# Altium schematic symbol library connectors.SchLib: 228 symbols (part 2 of 2)
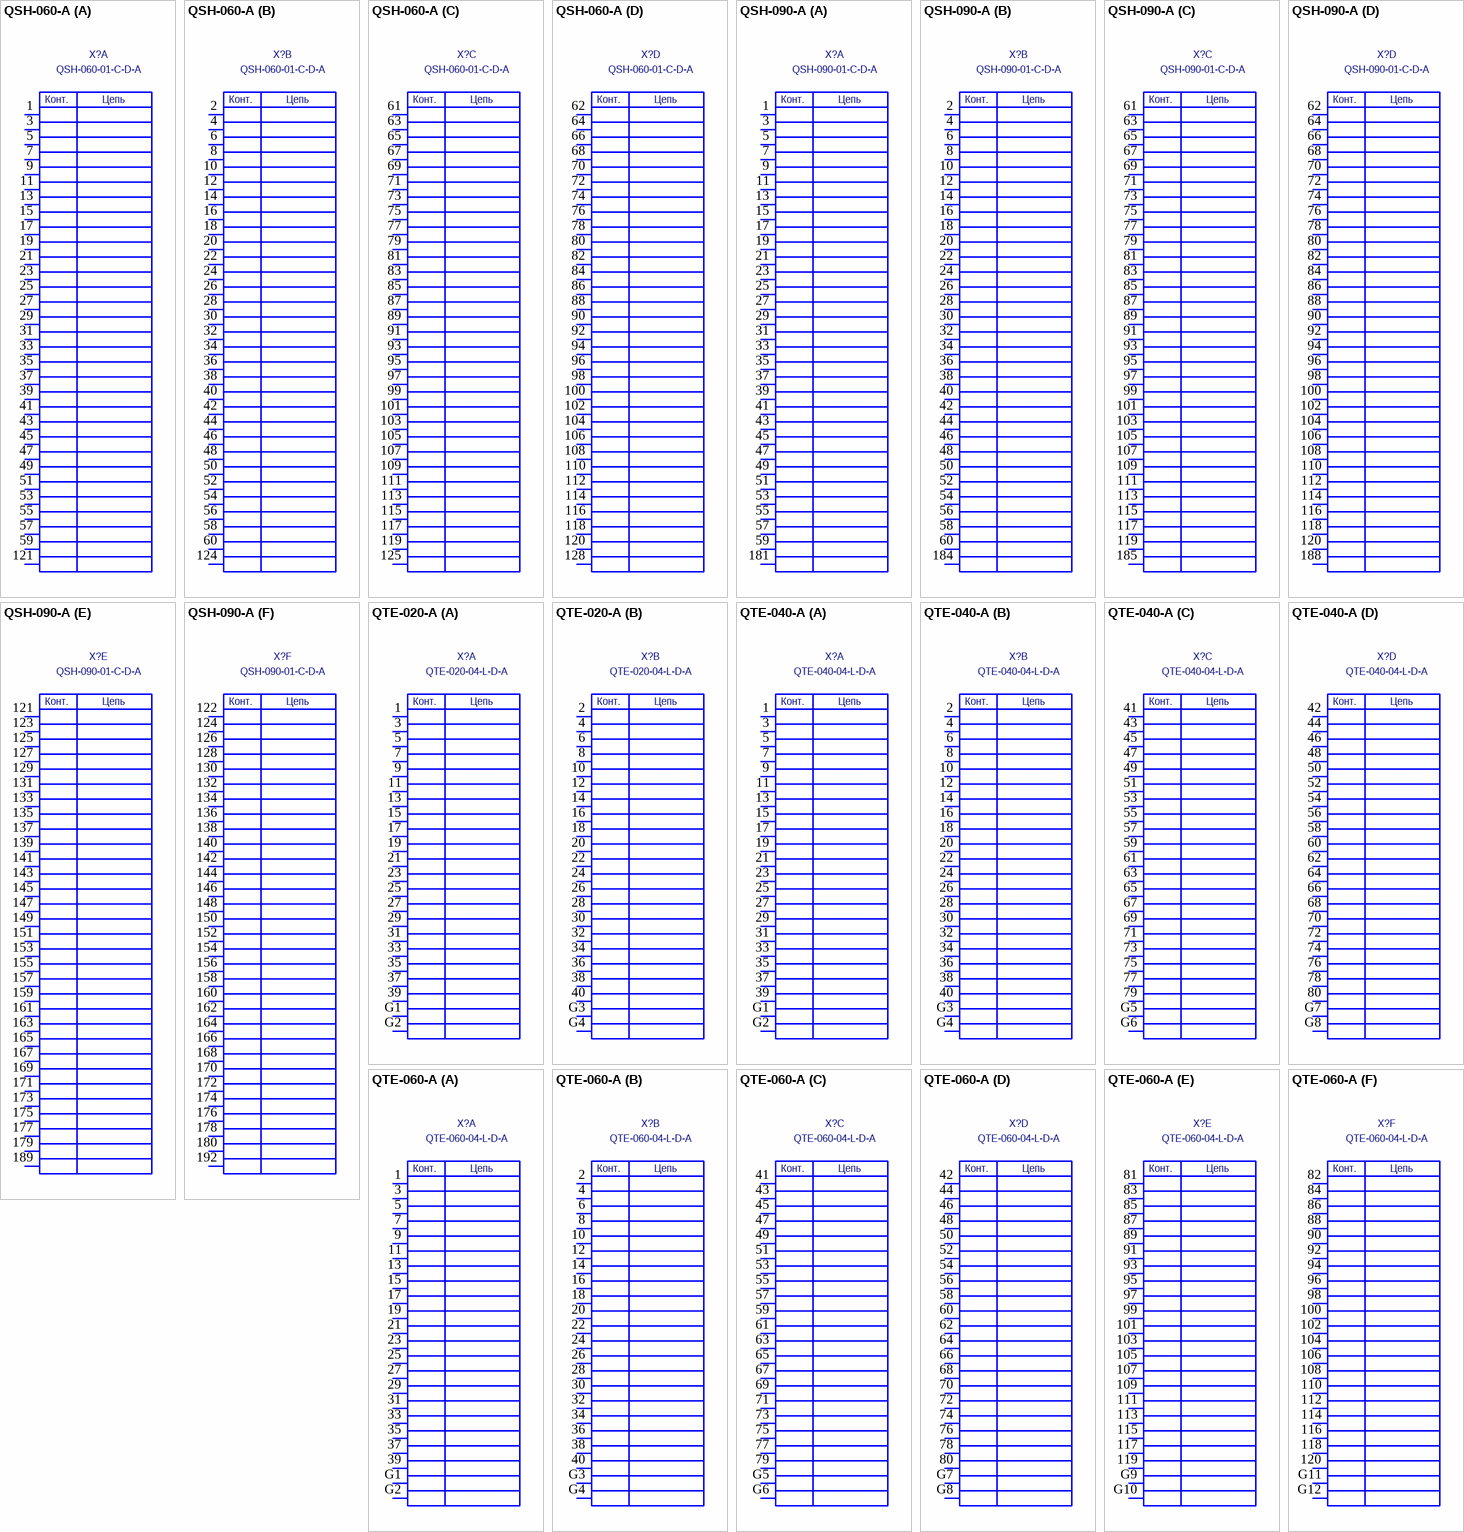
[diagram p16: symbols QSH-060-A to QTE-060-A]

## QTE-020-A
designator X?  value QTE-020-04-L-D-A  (hidden comment: QTE-020-A)
footprint QTE-020-A
pins on every part: 45 hidden, 46 hidden
part A pins: 1 C, 3 C, 5 C, 7 C, 9 C, 11 C, 13 C, 15 C, 17 C, 19 C, 21 C, 23 C, 25 C, 27 C, 29 C, 31 C, 33 C, 35 C, 37 C, 39 C, G1 GND, G2 GND
part B pins: 2 C, 4 C, 6 C, 8 C, 10 C, 12 C, 14 C, 16 C, 18 C, 20 C, 22 C, 24 C, 26 C, 28 C, 30 C, 32 C, 34 C, 36 C, 38 C, 40 C, G3 GND, G4 GND
part A text: Конт.; Цепь
part B text: Конт.; Цепь

## QTE-040-A
designator X?  value QTE-040-04-L-D-A  (hidden comment: QTE-040-A)
footprint QTE-040-A
pins on every part: 89 hidden, 90 hidden
part A pins: 1 C, 3 C, 5 C, 7 C, 9 C, 11 C, 13 C, 15 C, 17 C, 19 C, 21 C, 23 C, 25 C, 27 C, 29 C, 31 C, 33 C, 35 C, 37 C, 39 C, G1 GND, G2 GND
part B pins: 2 C, 4 C, 6 C, 8 C, 10 C, 12 C, 14 C, 16 C, 18 C, 20 C, 22 C, 24 C, 26 C, 28 C, 30 C, 32 C, 34 C, 36 C, 38 C, 40 C, G3 GND, G4 GND
part C pins: 41 C, 43 C, 45 C, 47 C, 49 C, 51 C, 53 C, 55 C, 57 C, 59 C, 61 C, 63 C, 65 C, 67 C, 69 C, 71 C, 73 C, 75 C, 77 C, 79 C, G5 GND, G6 GND
part D pins: 42 C, 44 C, 46 C, 48 C, 50 C, 52 C, 54 C, 56 C, 58 C, 60 C, 62 C, 64 C, 66 C, 68 C, 70 C, 72 C, 74 C, 76 C, 78 C, 80 C, G7 GND, G8 GND
part A text: Конт.; Цепь
part B text: Конт.; Цепь
part C text: Конт.; Цепь
part D text: Конт.; Цепь

## QTE-060-A
designator X?  value QTE-060-04-L-D-A  (hidden comment: QTE-060-A)
footprint QTE-060-A
pins on every part: 133 hidden, 134 hidden
part A pins: 1 C, 3 C, 5 C, 7 C, 9 C, 11 C, 13 C, 15 C, 17 C, 19 C, 21 C, 23 C, 25 C, 27 C, 29 C, 31 C, 33 C, 35 C, 37 C, 39 C, G1 GND, G2 GND
part B pins: 2 C, 4 C, 6 C, 8 C, 10 C, 12 C, 14 C, 16 C, 18 C, 20 C, 22 C, 24 C, 26 C, 28 C, 30 C, 32 C, 34 C, 36 C, 38 C, 40 C, G3 GND, G4 GND
part C pins: 41 C, 43 C, 45 C, 47 C, 49 C, 51 C, 53 C, 55 C, 57 C, 59 C, 61 C, 63 C, 65 C, 67 C, 69 C, 71 C, 73 C, 75 C, 77 C, 79 C, G5 GND, G6 GND
part D pins: 42 C, 44 C, 46 C, 48 C, 50 C, 52 C, 54 C, 56 C, 58 C, 60 C, 62 C, 64 C, 66 C, 68 C, 70 C, 72 C, 74 C, 76 C, 78 C, 80 C, G7 GND, G8 GND
part E pins: 81 C, 83 C, 85 C, 87 C, 89 C, 91 C, 93 C, 95 C, 97 C, 99 C, 101 C, 103 C, 105 C, 107 C, 109 C, 111 C, 113 C, 115 C, 117 C, 119 C, G9 GND, G10 GND
part F pins: 82 C, 84 C, 86 C, 88 C, 90 C, 92 C, 94 C, 96 C, 98 C, 100 C, 102 C, 104 C, 106 C, 108 C, 110 C, 112 C, 114 C, 116 C, 118 C, 120 C, G11 GND, G12 GND
part A text: Конт.; Цепь
part B text: Конт.; Цепь
part C text: Конт.; Цепь
part D text: Конт.; Цепь
part E text: Конт.; Цепь
part F text: Конт.; Цепь

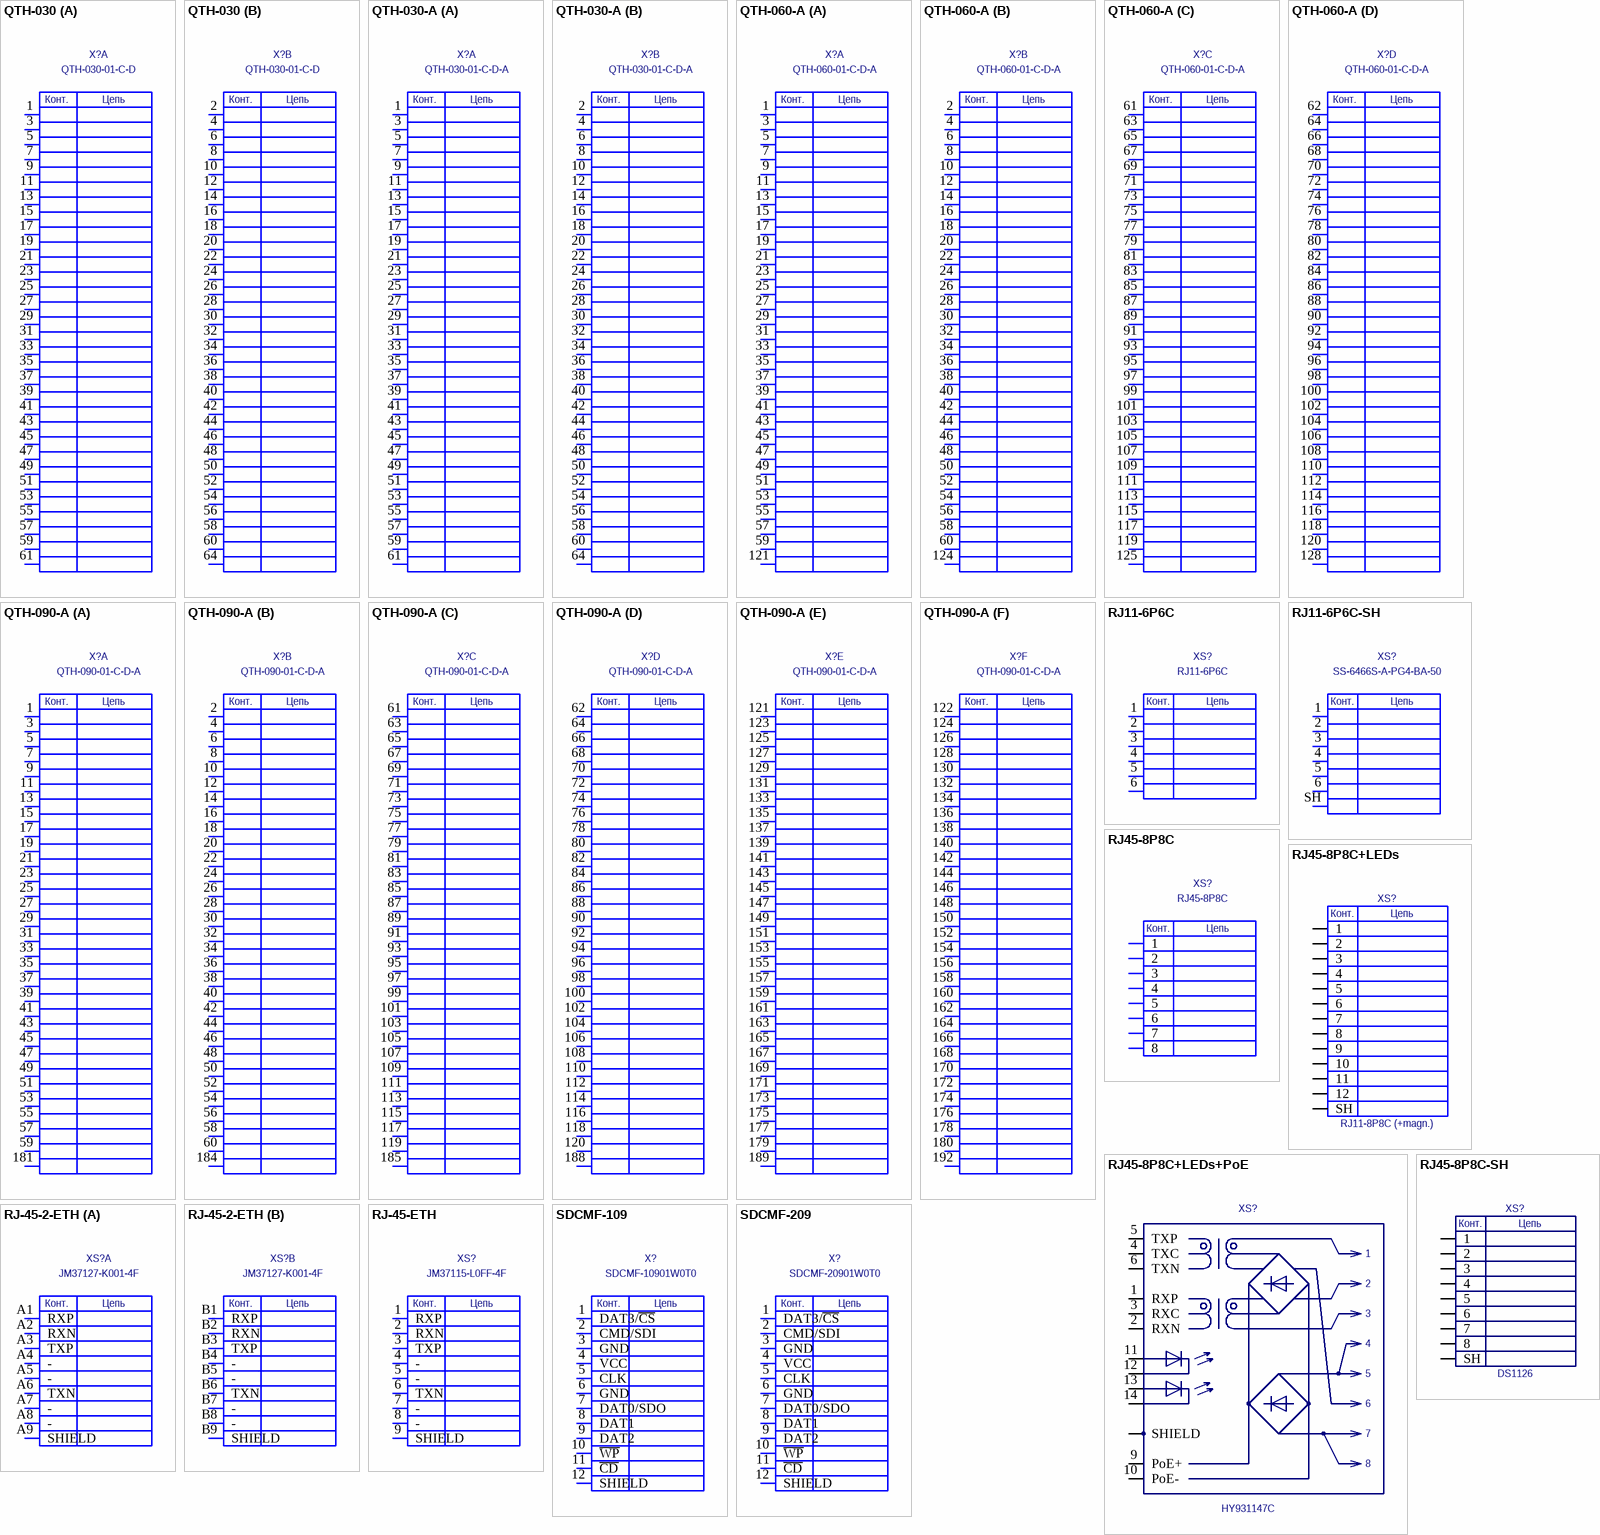
[diagram p11: symbols QTH-030 to SDCMF-209]

## QTH-030
designator X?  value QTH-030-01-C-D  (hidden comment: QTH-030)
footprint QTH-030
pins on every part: 62 hidden, 63 hidden
part A pins: 1 C, 3 C, 5 C, 7 C, 9 C, 11 C, 13 C, 15 C, 17 C, 19 C, 21 C, 23 C, 25 C, 27 C, 29 C, 31 C, 33 C, 35 C, 37 C, 39 C, 41 C, 43 C, 45 C, 47 C, 49 C, 51 C, 53 C, 55 C, 57 C, 59 C, 61 C
part B pins: 2 C, 4 C, 6 C, 8 C, 10 C, 12 C, 14 C, 16 C, 18 C, 20 C, 22 C, 24 C, 26 C, 28 C, 30 C, 32 C, 34 C, 36 C, 38 C, 40 C, 42 C, 44 C, 46 C, 48 C, 50 C, 52 C, 54 C, 56 C, 58 C, 60 C, 64 C
part A text: Конт.; Цепь
part B text: Конт.; Цепь

## QTH-030-A
designator X?  value QTH-030-01-C-D-A  (hidden comment: QTH-030-A)
footprint QTH-030-A
pins on every part: 62 hidden, 63 hidden, 65 hidden, 66 hidden
part A pins: 1 C, 3 C, 5 C, 7 C, 9 C, 11 C, 13 C, 15 C, 17 C, 19 C, 21 C, 23 C, 25 C, 27 C, 29 C, 31 C, 33 C, 35 C, 37 C, 39 C, 41 C, 43 C, 45 C, 47 C, 49 C, 51 C, 53 C, 55 C, 57 C, 59 C, 61 C
part B pins: 2 C, 4 C, 6 C, 8 C, 10 C, 12 C, 14 C, 16 C, 18 C, 20 C, 22 C, 24 C, 26 C, 28 C, 30 C, 32 C, 34 C, 36 C, 38 C, 40 C, 42 C, 44 C, 46 C, 48 C, 50 C, 52 C, 54 C, 56 C, 58 C, 60 C, 64 C
part A text: Конт.; Цепь
part B text: Конт.; Цепь

## QTH-060-A
designator X?  value QTH-060-01-C-D-A  (hidden comment: QTH-060-A)
footprint QTH-060-A
pins on every part: 122 hidden, 123 hidden, 126 hidden, 127 hidden, 129 hidden, 130 hidden
part A pins: 1 C, 3 C, 5 C, 7 C, 9 C, 11 C, 13 C, 15 C, 17 C, 19 C, 21 C, 23 C, 25 C, 27 C, 29 C, 31 C, 33 C, 35 C, 37 C, 39 C, 41 C, 43 C, 45 C, 47 C, 49 C, 51 C, 53 C, 55 C, 57 C, 59 C, 121 C
part B pins: 2 C, 4 C, 6 C, 8 C, 10 C, 12 C, 14 C, 16 C, 18 C, 20 C, 22 C, 24 C, 26 C, 28 C, 30 C, 32 C, 34 C, 36 C, 38 C, 40 C, 42 C, 44 C, 46 C, 48 C, 50 C, 52 C, 54 C, 56 C, 58 C, 60 C, 124 C
part C pins: 61 C, 63 C, 65 C, 67 C, 69 C, 71 C, 73 C, 75 C, 77 C, 79 C, 81 C, 83 C, 85 C, 87 C, 89 C, 91 C, 93 C, 95 C, 97 C, 99 C, 101 C, 103 C, 105 C, 107 C, 109 C, 111 C, 113 C, 115 C, 117 C, 119 C, 125 C
part D pins: 62 C, 64 C, 66 C, 68 C, 70 C, 72 C, 74 C, 76 C, 78 C, 80 C, 82 C, 84 C, 86 C, 88 C, 90 C, 92 C, 94 C, 96 C, 98 C, 100 C, 102 C, 104 C, 106 C, 108 C, 110 C, 112 C, 114 C, 116 C, 118 C, 120 C, 128 C
part A text: Конт.; Цепь
part B text: Конт.; Цепь
part C text: Конт.; Цепь
part D text: Конт.; Цепь

## QTH-090-A
designator X?  value QTH-090-01-C-D-A  (hidden comment: QTH-090-A)
footprint QTH-090-A
pins on every part: 182 hidden, 183 hidden, 186 hidden, 187 hidden, 190 hidden, 191 hidden, 193 hidden, 194 hidden
part A pins: 1 C, 3 C, 5 C, 7 C, 9 C, 11 C, 13 C, 15 C, 17 C, 19 C, 21 C, 23 C, 25 C, 27 C, 29 C, 31 C, 33 C, 35 C, 37 C, 39 C, 41 C, 43 C, 45 C, 47 C, 49 C, 51 C, 53 C, 55 C, 57 C, 59 C, 181 C
part B pins: 2 C, 4 C, 6 C, 8 C, 10 C, 12 C, 14 C, 16 C, 18 C, 20 C, 22 C, 24 C, 26 C, 28 C, 30 C, 32 C, 34 C, 36 C, 38 C, 40 C, 42 C, 44 C, 46 C, 48 C, 50 C, 52 C, 54 C, 56 C, 58 C, 60 C, 184 C
part C pins: 61 C, 63 C, 65 C, 67 C, 69 C, 71 C, 73 C, 75 C, 77 C, 79 C, 81 C, 83 C, 85 C, 87 C, 89 C, 91 C, 93 C, 95 C, 97 C, 99 C, 101 C, 103 C, 105 C, 107 C, 109 C, 111 C, 113 C, 115 C, 117 C, 119 C, 185 C
part D pins: 62 C, 64 C, 66 C, 68 C, 70 C, 72 C, 74 C, 76 C, 78 C, 80 C, 82 C, 84 C, 86 C, 88 C, 90 C, 92 C, 94 C, 96 C, 98 C, 100 C, 102 C, 104 C, 106 C, 108 C, 110 C, 112 C, 114 C, 116 C, 118 C, 120 C, 188 C
part E pins: 121 C, 123 C, 125 C, 127 C, 129 C, 131 C, 133 C, 135 C, 137 C, 139 C, 141 C, 143 C, 145 C, 147 C, 149 C, 151 C, 153 C, 155 C, 157 C, 159 C, 161 C, 163 C, 165 C, 167 C, 169 C, 171 C, 173 C, 175 C, 177 C, 179 C, 189 C
part F pins: 122 C, 124 C, 126 C, 128 C, 130 C, 132 C, 134 C, 136 C, 138 C, 140 C, 142 C, 144 C, 146 C, 148 C, 150 C, 152 C, 154 C, 156 C, 158 C, 160 C, 162 C, 164 C, 166 C, 168 C, 170 C, 172 C, 174 C, 176 C, 178 C, 180 C, 192 C
part A text: Конт.; Цепь
part B text: Конт.; Цепь
part C text: Конт.; Цепь
part D text: Конт.; Цепь
part E text: Конт.; Цепь
part F text: Конт.; Цепь

## RJ11-6P6C
designator XS?
Value: RJ11-6P6C
footprint RJ-11-6P6C_RJ11-6P6C(Primary)
pins: 1 C, 2 C, 3 C, 4 C, 5 C, 6 C, H1 hidden, H2 hidden, SH1 hidden, SH2 hidden, SH3 hidden, SH4 hidden
text: Конт.; Цепь

## RJ11-6P6C-SH
designator XS?  value SS-6466S-A-PG4-BA-50  (hidden comment: RJ11-6P6C-SH)
footprint RJ-11-6P6C_RJ11-6P6C-SH(Primary)
pins: 1 C, 2 C, 3 C, 4 C, 5 C, 6 C, H1 hidden, H2 hidden, SH SHIELD, SH2 hidden, SH3 hidden, SH4 hidden
text: Конт.; Цепь

## RJ45-8P8C
designator XS?
Value: RJ45-8P8C
pins: 1, 2, 3, 4, 5, 6, 7, 8
text: Конт.; Цепь

## RJ45-8P8C+LEDs
designator XS?, comment RJ11-8P8C (+magn.)
Ethernet with LEDs (straight); Value: RJ11-8P8C (+magn.)
footprint RJ-11-8P8C-21mm-LED (SK02-111015NL (KLS12-TL002- 1x1-G/G-1-03))
footprint RJ-11-8P8C-21mm-LED2 (KLS12-TL051-1x1-G/Y-1-03 (SK02-111006NL))
footprint RJ-11-8P8C-VERT-LED
footprint RJ-11-8P8C-16mm-LED
pins: 1, 2, 3, 4, 5, 6, 7, 8, 9, 10, 11, 12, SHL SH, SHR SH
text: Конт.; Цепь

## RJ45-8P8C+LEDs+PoE
designator XS?, comment HY931147C
Ethernet with magn., LEDs and PoE; Value: HY931147C
footprint RJ-11-8P10C-PoE-LED (10-2 pins, internal magnetics, PoE brige)
pins: 1 RXP, 2 RXN, 3 RXC, 4 TXC, 5 TXP, 6 TXN, 9 PoE+, 10 PoE-, 11, 12, 13, 14, SHL SHIELD, SHR SHIELD
text: 7; 8

## RJ45-8P8C-SH
designator XS?, comment DS1126
21 mm (DS1126); Value: DS1126
footprint RJ-11-8P8C-21mm (DS1126)
footprint RJ-11-8P8C-19mm (TJ16)
footprint RJ-11-8P8C-SMD-VERT (1-338088-3)
pins: 1, 2, 3, 4, 5, 6, 7, 8, SHL SH, SHR SH
text: Конт.; Цепь

## RJ-45-2-ETH
designator XS?  value JM37127-K001-4F  (hidden comment: RJ-45-2-ETH)
pins on every part: 11 hidden, A10 hidden, B10 hidden
part A pins: A1 RXP, A2 RXN, A3 TXP, A4 -, A5 -, A6 TXN, A7 -, A8 -, A9 SHIELD
part B pins: B1 RXP, B2 RXN, B3 TXP, B4 -, B5 -, B6 TXN, B7 -, B8 -, B9 SHIELD
part A text: Конт.; Цепь
part B text: Конт.; Цепь

## RJ-45-ETH
designator XS?  value JM37115-L0FF-4F  (hidden comment: RJ-45-ETH)
pins: 1 RXP, 2 RXN, 3 TXP, 4 -, 5 -, 6 TXN, 7 -, 8 -, 9 SHIELD, 10 hidden, 11 hidden, 12 hidden
text: Конт.; Цепь

## SDCMF-109
designator X?  value SDCMF-10901W0T0  (hidden comment: SDCMF-109)
footprint SDCMF-109XX
pins: 1 DAT3/~{CS}, 2 CMD/SDI, 3 GND, 4 VCC, 5 CLK, 6 GND, 7 DAT0/SDO, 8 DAT1, 9 DAT2, 10 ~{WP}, 11 ~{CD}, 12 SHIELD, 13 hidden, 14 hidden, 15 hidden, 16 hidden, 17 hidden
text: Конт.; Цепь

## SDCMF-209
designator X?  value SDCMF-20901W0T0  (hidden comment: SDCMF-209)
footprint SDCMF-209XX
pins: 1 DAT3/~{CS}, 2 CMD/SDI, 3 GND, 4 VCC, 5 CLK, 6 GND, 7 DAT0/SDO, 8 DAT1, 9 DAT2, 10 ~{WP}, 11 ~{CD}, 12 SHIELD, 13 hidden, 14 hidden, 15 hidden, 16 hidden, 17 hidden
text: Конт.; Цепь

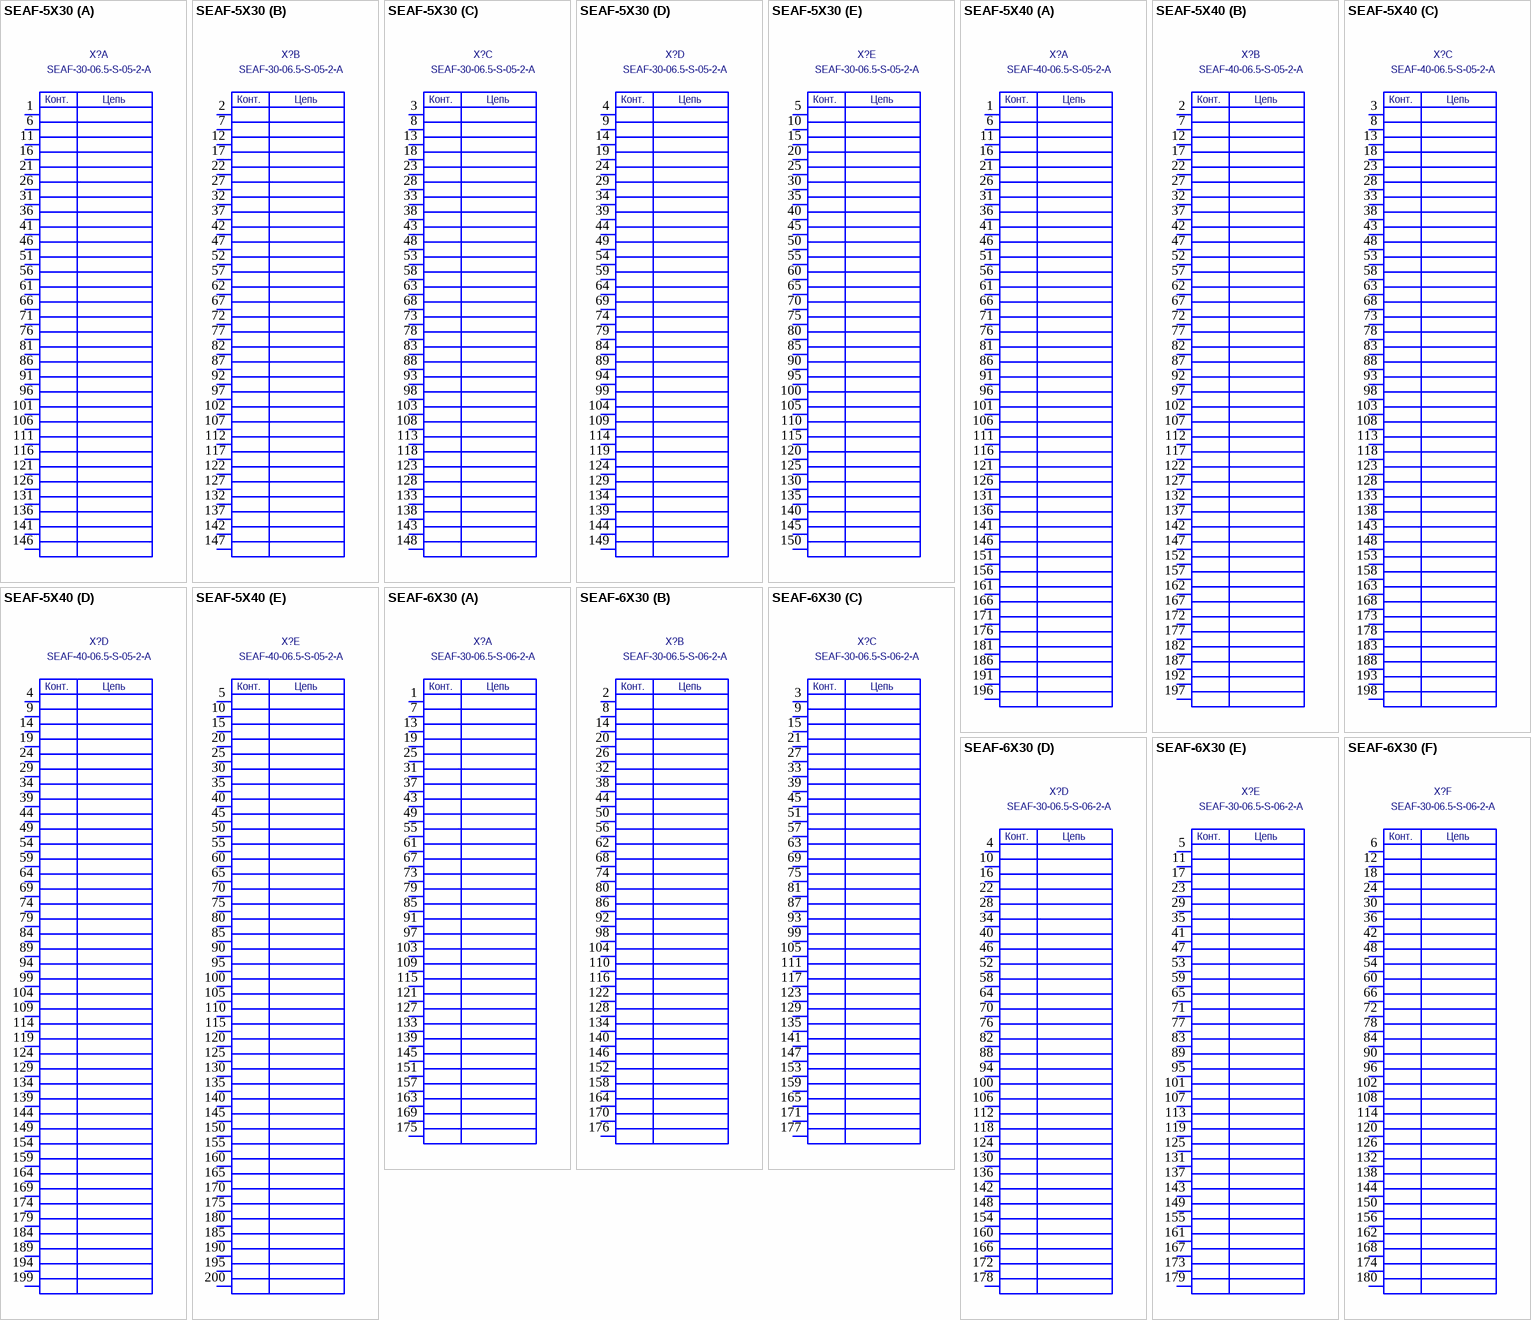
[diagram p12: symbols SEAF-5X30 to SEAF-6X30]

## SEAF-5X30
designator X?  value SEAF-30-06.5-S-05-2-A  (hidden comment: SEAF-5X30)
footprint SEAF-5X30
pins on every part: 151 hidden, 152 hidden
part A pins: 1 C, 6 C, 11 C, 16 C, 21 C, 26 C, 31 C, 36 C, 41 C, 46 C, 51 C, 56 C, 61 C, 66 C, 71 C, 76 C, 81 C, 86 C, 91 C, 96 C, 101 C, 106 C, 111 C, 116 C, 121 C, 126 C, 131 C, 136 C, 141 C, 146 C
part B pins: 2 C, 7 C, 12 C, 17 C, 22 C, 27 C, 32 C, 37 C, 42 C, 47 C, 52 C, 57 C, 62 C, 67 C, 72 C, 77 C, 82 C, 87 C, 92 C, 97 C, 102 C, 107 C, 112 C, 117 C, 122 C, 127 C, 132 C, 137 C, 142 C, 147 C
part C pins: 3 C, 8 C, 13 C, 18 C, 23 C, 28 C, 33 C, 38 C, 43 C, 48 C, 53 C, 58 C, 63 C, 68 C, 73 C, 78 C, 83 C, 88 C, 93 C, 98 C, 103 C, 108 C, 113 C, 118 C, 123 C, 128 C, 133 C, 138 C, 143 C, 148 C
part D pins: 4 C, 9 C, 14 C, 19 C, 24 C, 29 C, 34 C, 39 C, 44 C, 49 C, 54 C, 59 C, 64 C, 69 C, 74 C, 79 C, 84 C, 89 C, 94 C, 99 C, 104 C, 109 C, 114 C, 119 C, 124 C, 129 C, 134 C, 139 C, 144 C, 149 C
part E pins: 5 C, 10 C, 15 C, 20 C, 25 C, 30 C, 35 C, 40 C, 45 C, 50 C, 55 C, 60 C, 65 C, 70 C, 75 C, 80 C, 85 C, 90 C, 95 C, 100 C, 105 C, 110 C, 115 C, 120 C, 125 C, 130 C, 135 C, 140 C, 145 C, 150 C
part A text: Конт.; Цепь
part B text: Конт.; Цепь
part C text: Конт.; Цепь
part D text: Конт.; Цепь
part E text: Конт.; Цепь

## SEAF-5X40
designator X?  value SEAF-40-06.5-S-05-2-A  (hidden comment: SEAF-5X40)
footprint SEAF-5X40
pins on every part: 201 hidden, 202 hidden
part A pins: 1 C, 6 C, 11 C, 16 C, 21 C, 26 C, 31 C, 36 C, 41 C, 46 C, 51 C, 56 C, 61 C, 66 C, 71 C, 76 C, 81 C, 86 C, 91 C, 96 C, 101 C, 106 C, 111 C, 116 C, 121 C, 126 C, 131 C, 136 C, 141 C, 146 C, 151 C, 156 C, 161 C, 166 C, 171 C, 176 C, 181 C, 186 C, 191 C, 196 C
part B pins: 2 C, 7 C, 12 C, 17 C, 22 C, 27 C, 32 C, 37 C, 42 C, 47 C, 52 C, 57 C, 62 C, 67 C, 72 C, 77 C, 82 C, 87 C, 92 C, 97 C, 102 C, 107 C, 112 C, 117 C, 122 C, 127 C, 132 C, 137 C, 142 C, 147 C, 152 C, 157 C, 162 C, 167 C, 172 C, 177 C, 182 C, 187 C, 192 C, 197 C
part C pins: 3 C, 8 C, 13 C, 18 C, 23 C, 28 C, 33 C, 38 C, 43 C, 48 C, 53 C, 58 C, 63 C, 68 C, 73 C, 78 C, 83 C, 88 C, 93 C, 98 C, 103 C, 108 C, 113 C, 118 C, 123 C, 128 C, 133 C, 138 C, 143 C, 148 C, 153 C, 158 C, 163 C, 168 C, 173 C, 178 C, 183 C, 188 C, 193 C, 198 C
part D pins: 4 C, 9 C, 14 C, 19 C, 24 C, 29 C, 34 C, 39 C, 44 C, 49 C, 54 C, 59 C, 64 C, 69 C, 74 C, 79 C, 84 C, 89 C, 94 C, 99 C, 104 C, 109 C, 114 C, 119 C, 124 C, 129 C, 134 C, 139 C, 144 C, 149 C, 154 C, 159 C, 164 C, 169 C, 174 C, 179 C, 184 C, 189 C, 194 C, 199 C
part E pins: 5 C, 10 C, 15 C, 20 C, 25 C, 30 C, 35 C, 40 C, 45 C, 50 C, 55 C, 60 C, 65 C, 70 C, 75 C, 80 C, 85 C, 90 C, 95 C, 100 C, 105 C, 110 C, 115 C, 120 C, 125 C, 130 C, 135 C, 140 C, 145 C, 150 C, 155 C, 160 C, 165 C, 170 C, 175 C, 180 C, 185 C, 190 C, 195 C, 200 C
part A text: Конт.; Цепь
part B text: Конт.; Цепь
part C text: Конт.; Цепь
part D text: Конт.; Цепь
part E text: Конт.; Цепь

## SEAF-6X30
designator X?  value SEAF-30-06.5-S-06-2-A  (hidden comment: SEAF-6X30)
footprint SEAF-6X30
pins on every part: 181 hidden, 182 hidden
part A pins: 1 C, 7 C, 13 C, 19 C, 25 C, 31 C, 37 C, 43 C, 49 C, 55 C, 61 C, 67 C, 73 C, 79 C, 85 C, 91 C, 97 C, 103 C, 109 C, 115 C, 121 C, 127 C, 133 C, 139 C, 145 C, 151 C, 157 C, 163 C, 169 C, 175 C
part B pins: 2 C, 8 C, 14 C, 20 C, 26 C, 32 C, 38 C, 44 C, 50 C, 56 C, 62 C, 68 C, 74 C, 80 C, 86 C, 92 C, 98 C, 104 C, 110 C, 116 C, 122 C, 128 C, 134 C, 140 C, 146 C, 152 C, 158 C, 164 C, 170 C, 176 C
part C pins: 3 C, 9 C, 15 C, 21 C, 27 C, 33 C, 39 C, 45 C, 51 C, 57 C, 63 C, 69 C, 75 C, 81 C, 87 C, 93 C, 99 C, 105 C, 111 C, 117 C, 123 C, 129 C, 135 C, 141 C, 147 C, 153 C, 159 C, 165 C, 171 C, 177 C
part D pins: 4 C, 10 C, 16 C, 22 C, 28 C, 34 C, 40 C, 46 C, 52 C, 58 C, 64 C, 70 C, 76 C, 82 C, 88 C, 94 C, 100 C, 106 C, 112 C, 118 C, 124 C, 130 C, 136 C, 142 C, 148 C, 154 C, 160 C, 166 C, 172 C, 178 C
part E pins: 5 C, 11 C, 17 C, 23 C, 29 C, 35 C, 41 C, 47 C, 53 C, 59 C, 65 C, 71 C, 77 C, 83 C, 89 C, 95 C, 101 C, 107 C, 113 C, 119 C, 125 C, 131 C, 137 C, 143 C, 149 C, 155 C, 161 C, 167 C, 173 C, 179 C
part F pins: 6 C, 12 C, 18 C, 24 C, 30 C, 36 C, 42 C, 48 C, 54 C, 60 C, 66 C, 72 C, 78 C, 84 C, 90 C, 96 C, 102 C, 108 C, 114 C, 120 C, 126 C, 132 C, 138 C, 144 C, 150 C, 156 C, 162 C, 168 C, 174 C, 180 C
part A text: Конт.; Цепь
part B text: Конт.; Цепь
part C text: Конт.; Цепь
part D text: Конт.; Цепь
part E text: Конт.; Цепь
part F text: Конт.; Цепь

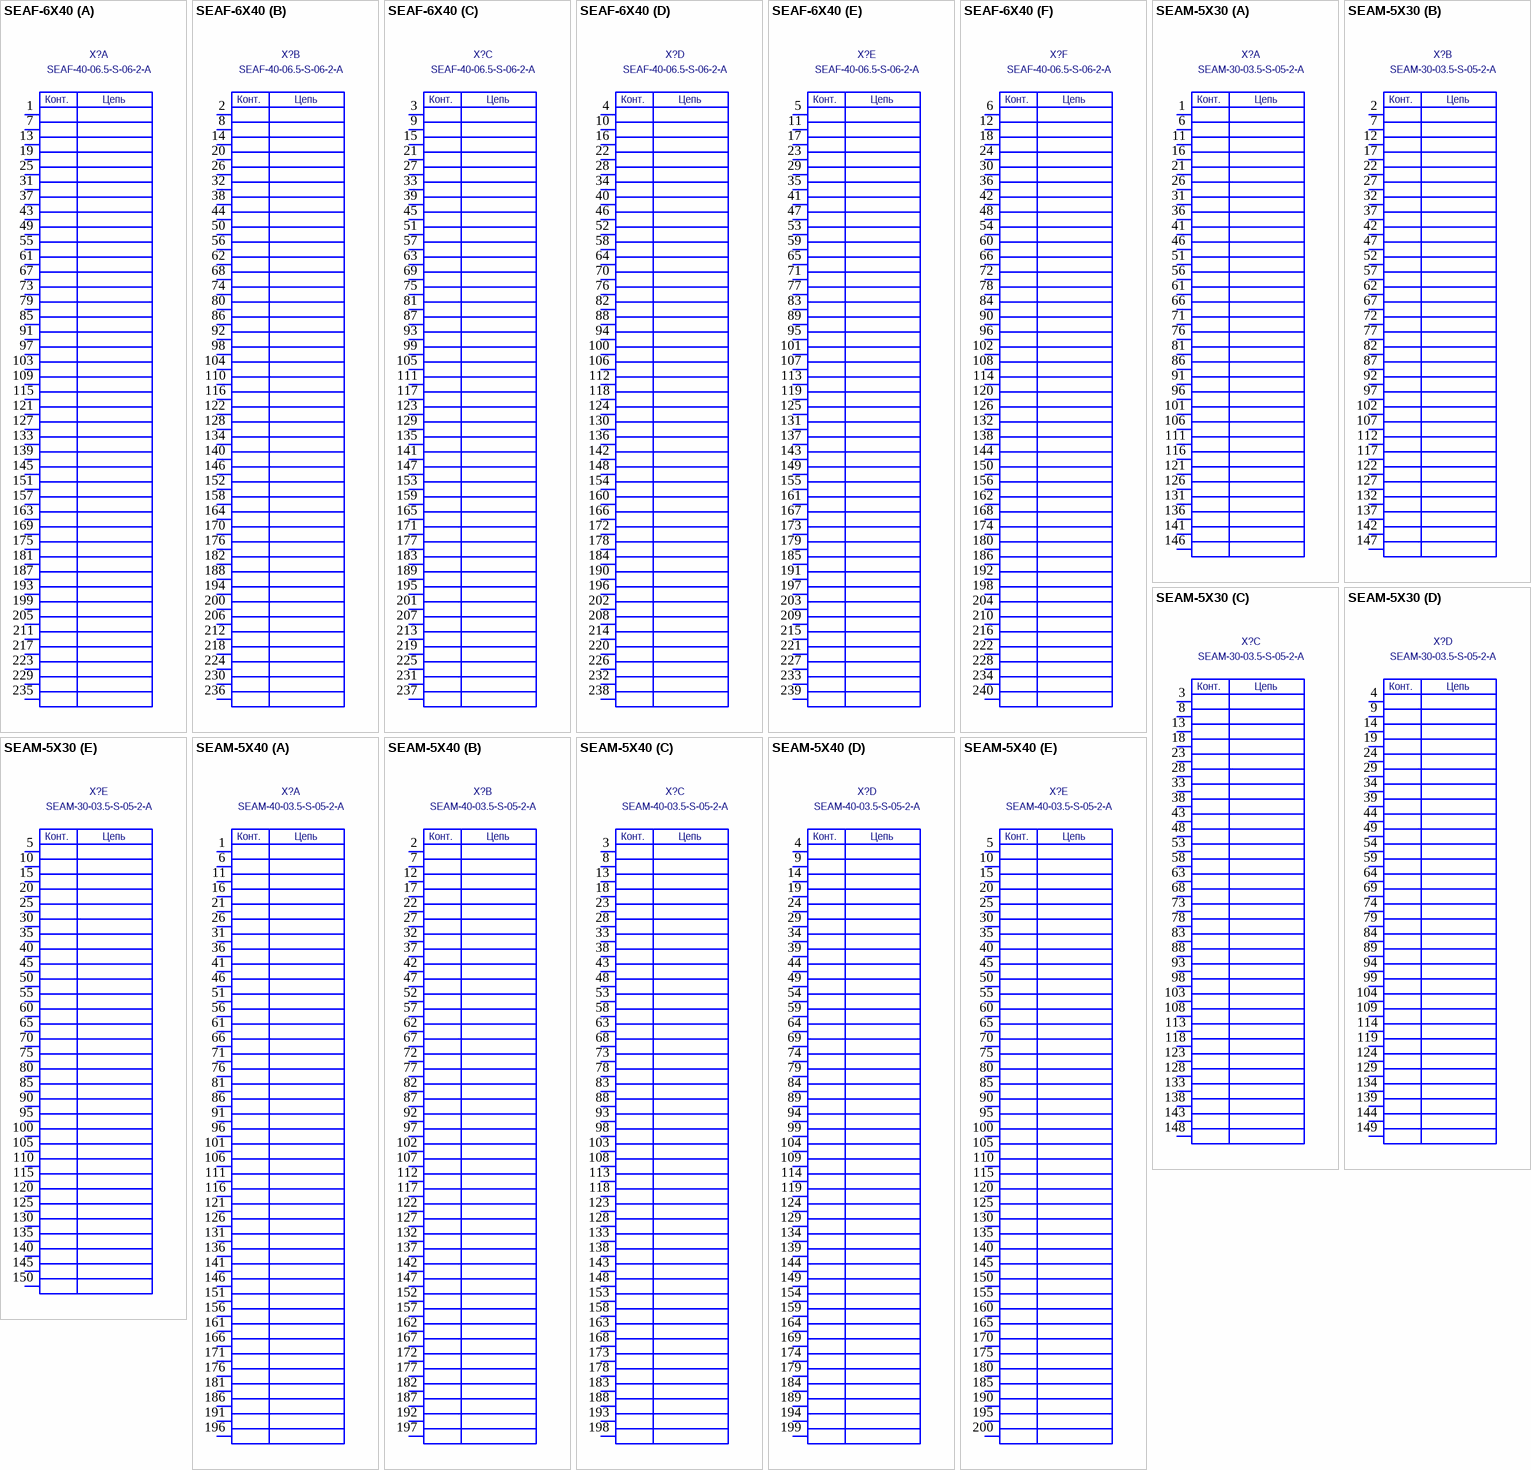
[diagram p13: symbols SEAF-6X40 to SEAM-5X40]

## SEAF-6X40
designator X?  value SEAF-40-06.5-S-06-2-A  (hidden comment: SEAF-6X40)
footprint SEAF-6X40
pins on every part: 241 hidden, 242 hidden
part A pins: 1 C, 7 C, 13 C, 19 C, 25 C, 31 C, 37 C, 43 C, 49 C, 55 C, 61 C, 67 C, 73 C, 79 C, 85 C, 91 C, 97 C, 103 C, 109 C, 115 C, 121 C, 127 C, 133 C, 139 C, 145 C, 151 C, 157 C, 163 C, 169 C, 175 C, 181 C, 187 C, 193 C, 199 C, 205 C, 211 C, 217 C, 223 C, 229 C, 235 C
part B pins: 2 C, 8 C, 14 C, 20 C, 26 C, 32 C, 38 C, 44 C, 50 C, 56 C, 62 C, 68 C, 74 C, 80 C, 86 C, 92 C, 98 C, 104 C, 110 C, 116 C, 122 C, 128 C, 134 C, 140 C, 146 C, 152 C, 158 C, 164 C, 170 C, 176 C, 182 C, 188 C, 194 C, 200 C, 206 C, 212 C, 218 C, 224 C, 230 C, 236 C
part C pins: 3 C, 9 C, 15 C, 21 C, 27 C, 33 C, 39 C, 45 C, 51 C, 57 C, 63 C, 69 C, 75 C, 81 C, 87 C, 93 C, 99 C, 105 C, 111 C, 117 C, 123 C, 129 C, 135 C, 141 C, 147 C, 153 C, 159 C, 165 C, 171 C, 177 C, 183 C, 189 C, 195 C, 201 C, 207 C, 213 C, 219 C, 225 C, 231 C, 237 C
part D pins: 4 C, 10 C, 16 C, 22 C, 28 C, 34 C, 40 C, 46 C, 52 C, 58 C, 64 C, 70 C, 76 C, 82 C, 88 C, 94 C, 100 C, 106 C, 112 C, 118 C, 124 C, 130 C, 136 C, 142 C, 148 C, 154 C, 160 C, 166 C, 172 C, 178 C, 184 C, 190 C, 196 C, 202 C, 208 C, 214 C, 220 C, 226 C, 232 C, 238 C
part E pins: 5 C, 11 C, 17 C, 23 C, 29 C, 35 C, 41 C, 47 C, 53 C, 59 C, 65 C, 71 C, 77 C, 83 C, 89 C, 95 C, 101 C, 107 C, 113 C, 119 C, 125 C, 131 C, 137 C, 143 C, 149 C, 155 C, 161 C, 167 C, 173 C, 179 C, 185 C, 191 C, 197 C, 203 C, 209 C, 215 C, 221 C, 227 C, 233 C, 239 C
part F pins: 6 C, 12 C, 18 C, 24 C, 30 C, 36 C, 42 C, 48 C, 54 C, 60 C, 66 C, 72 C, 78 C, 84 C, 90 C, 96 C, 102 C, 108 C, 114 C, 120 C, 126 C, 132 C, 138 C, 144 C, 150 C, 156 C, 162 C, 168 C, 174 C, 180 C, 186 C, 192 C, 198 C, 204 C, 210 C, 216 C, 222 C, 228 C, 234 C, 240 C
part A text: Конт.; Цепь
part B text: Конт.; Цепь
part C text: Конт.; Цепь
part D text: Конт.; Цепь
part E text: Конт.; Цепь
part F text: Конт.; Цепь

## SEAM-5X30
designator X?  value SEAM-30-03.5-S-05-2-A  (hidden comment: SEAM-5X30)
footprint SEAM-5X30
pins on every part: 151 hidden, 152 hidden
part A pins: 1 C, 6 C, 11 C, 16 C, 21 C, 26 C, 31 C, 36 C, 41 C, 46 C, 51 C, 56 C, 61 C, 66 C, 71 C, 76 C, 81 C, 86 C, 91 C, 96 C, 101 C, 106 C, 111 C, 116 C, 121 C, 126 C, 131 C, 136 C, 141 C, 146 C
part B pins: 2 C, 7 C, 12 C, 17 C, 22 C, 27 C, 32 C, 37 C, 42 C, 47 C, 52 C, 57 C, 62 C, 67 C, 72 C, 77 C, 82 C, 87 C, 92 C, 97 C, 102 C, 107 C, 112 C, 117 C, 122 C, 127 C, 132 C, 137 C, 142 C, 147 C
part C pins: 3 C, 8 C, 13 C, 18 C, 23 C, 28 C, 33 C, 38 C, 43 C, 48 C, 53 C, 58 C, 63 C, 68 C, 73 C, 78 C, 83 C, 88 C, 93 C, 98 C, 103 C, 108 C, 113 C, 118 C, 123 C, 128 C, 133 C, 138 C, 143 C, 148 C
part D pins: 4 C, 9 C, 14 C, 19 C, 24 C, 29 C, 34 C, 39 C, 44 C, 49 C, 54 C, 59 C, 64 C, 69 C, 74 C, 79 C, 84 C, 89 C, 94 C, 99 C, 104 C, 109 C, 114 C, 119 C, 124 C, 129 C, 134 C, 139 C, 144 C, 149 C
part E pins: 5 C, 10 C, 15 C, 20 C, 25 C, 30 C, 35 C, 40 C, 45 C, 50 C, 55 C, 60 C, 65 C, 70 C, 75 C, 80 C, 85 C, 90 C, 95 C, 100 C, 105 C, 110 C, 115 C, 120 C, 125 C, 130 C, 135 C, 140 C, 145 C, 150 C
part A text: Конт.; Цепь
part B text: Конт.; Цепь
part C text: Конт.; Цепь
part D text: Конт.; Цепь
part E text: Конт.; Цепь

## SEAM-5X40
designator X?  value SEAM-40-03.5-S-05-2-A  (hidden comment: SEAM-5X40)
footprint SEAM-5X40
pins on every part: 201 hidden, 202 hidden
part A pins: 1 C, 6 C, 11 C, 16 C, 21 C, 26 C, 31 C, 36 C, 41 C, 46 C, 51 C, 56 C, 61 C, 66 C, 71 C, 76 C, 81 C, 86 C, 91 C, 96 C, 101 C, 106 C, 111 C, 116 C, 121 C, 126 C, 131 C, 136 C, 141 C, 146 C, 151 C, 156 C, 161 C, 166 C, 171 C, 176 C, 181 C, 186 C, 191 C, 196 C
part B pins: 2 C, 7 C, 12 C, 17 C, 22 C, 27 C, 32 C, 37 C, 42 C, 47 C, 52 C, 57 C, 62 C, 67 C, 72 C, 77 C, 82 C, 87 C, 92 C, 97 C, 102 C, 107 C, 112 C, 117 C, 122 C, 127 C, 132 C, 137 C, 142 C, 147 C, 152 C, 157 C, 162 C, 167 C, 172 C, 177 C, 182 C, 187 C, 192 C, 197 C
part C pins: 3 C, 8 C, 13 C, 18 C, 23 C, 28 C, 33 C, 38 C, 43 C, 48 C, 53 C, 58 C, 63 C, 68 C, 73 C, 78 C, 83 C, 88 C, 93 C, 98 C, 103 C, 108 C, 113 C, 118 C, 123 C, 128 C, 133 C, 138 C, 143 C, 148 C, 153 C, 158 C, 163 C, 168 C, 173 C, 178 C, 183 C, 188 C, 193 C, 198 C
part D pins: 4 C, 9 C, 14 C, 19 C, 24 C, 29 C, 34 C, 39 C, 44 C, 49 C, 54 C, 59 C, 64 C, 69 C, 74 C, 79 C, 84 C, 89 C, 94 C, 99 C, 104 C, 109 C, 114 C, 119 C, 124 C, 129 C, 134 C, 139 C, 144 C, 149 C, 154 C, 159 C, 164 C, 169 C, 174 C, 179 C, 184 C, 189 C, 194 C, 199 C
part E pins: 5 C, 10 C, 15 C, 20 C, 25 C, 30 C, 35 C, 40 C, 45 C, 50 C, 55 C, 60 C, 65 C, 70 C, 75 C, 80 C, 85 C, 90 C, 95 C, 100 C, 105 C, 110 C, 115 C, 120 C, 125 C, 130 C, 135 C, 140 C, 145 C, 150 C, 155 C, 160 C, 165 C, 170 C, 175 C, 180 C, 185 C, 190 C, 195 C, 200 C
part A text: Конт.; Цепь
part B text: Конт.; Цепь
part C text: Конт.; Цепь
part D text: Конт.; Цепь
part E text: Конт.; Цепь

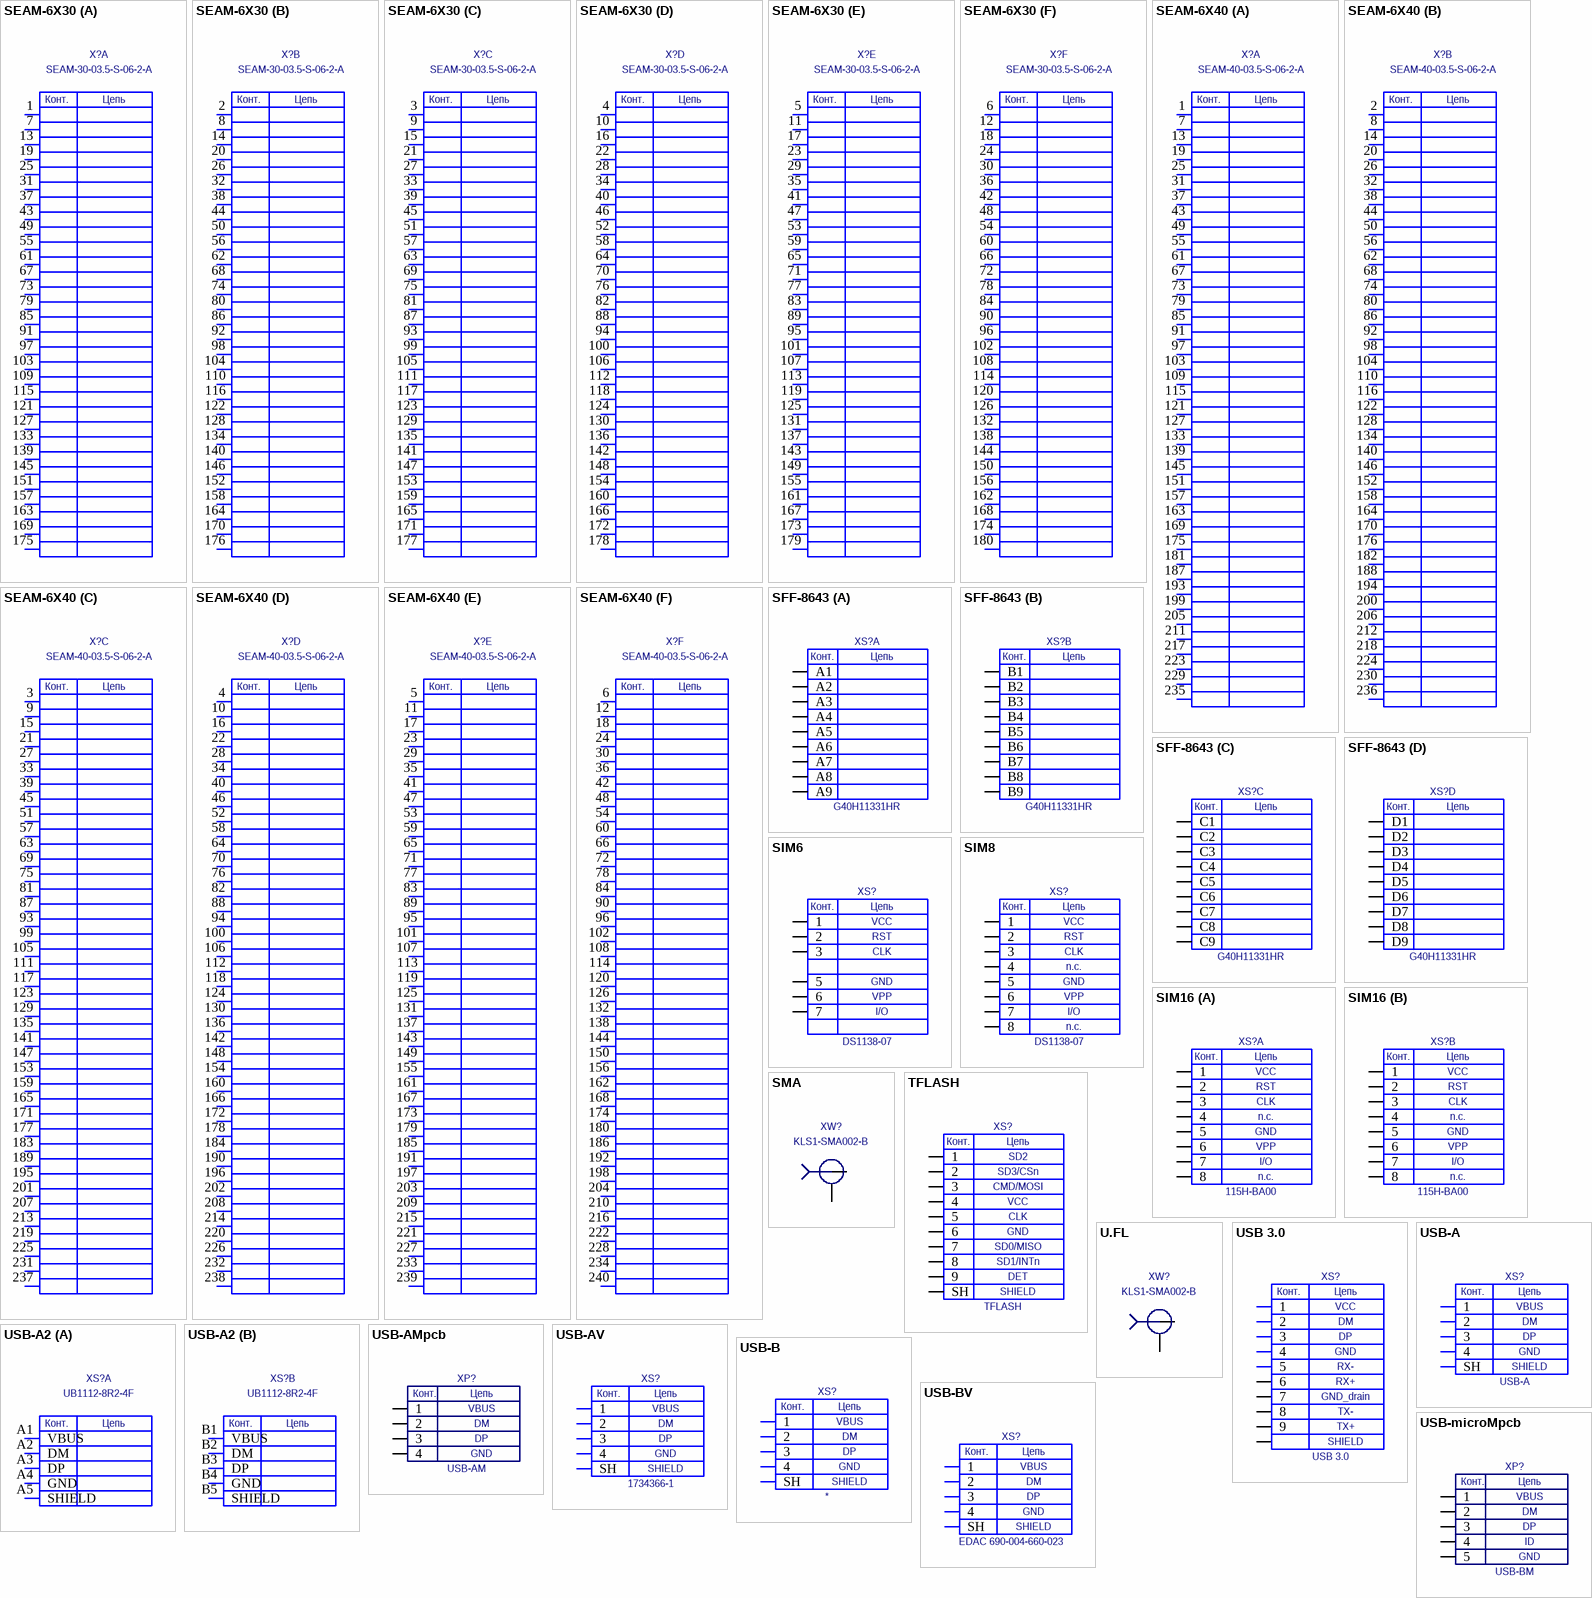
[diagram p14: symbols SEAM-6X30 to USB-microMpcb]

## SEAM-6X30
designator X?  value SEAM-30-03.5-S-06-2-A  (hidden comment: SEAM-6X30)
footprint SEAM-6X30
pins on every part: 181 hidden, 182 hidden
part A pins: 1 C, 7 C, 13 C, 19 C, 25 C, 31 C, 37 C, 43 C, 49 C, 55 C, 61 C, 67 C, 73 C, 79 C, 85 C, 91 C, 97 C, 103 C, 109 C, 115 C, 121 C, 127 C, 133 C, 139 C, 145 C, 151 C, 157 C, 163 C, 169 C, 175 C
part B pins: 2 C, 8 C, 14 C, 20 C, 26 C, 32 C, 38 C, 44 C, 50 C, 56 C, 62 C, 68 C, 74 C, 80 C, 86 C, 92 C, 98 C, 104 C, 110 C, 116 C, 122 C, 128 C, 134 C, 140 C, 146 C, 152 C, 158 C, 164 C, 170 C, 176 C
part C pins: 3 C, 9 C, 15 C, 21 C, 27 C, 33 C, 39 C, 45 C, 51 C, 57 C, 63 C, 69 C, 75 C, 81 C, 87 C, 93 C, 99 C, 105 C, 111 C, 117 C, 123 C, 129 C, 135 C, 141 C, 147 C, 153 C, 159 C, 165 C, 171 C, 177 C
part D pins: 4 C, 10 C, 16 C, 22 C, 28 C, 34 C, 40 C, 46 C, 52 C, 58 C, 64 C, 70 C, 76 C, 82 C, 88 C, 94 C, 100 C, 106 C, 112 C, 118 C, 124 C, 130 C, 136 C, 142 C, 148 C, 154 C, 160 C, 166 C, 172 C, 178 C
part E pins: 5 C, 11 C, 17 C, 23 C, 29 C, 35 C, 41 C, 47 C, 53 C, 59 C, 65 C, 71 C, 77 C, 83 C, 89 C, 95 C, 101 C, 107 C, 113 C, 119 C, 125 C, 131 C, 137 C, 143 C, 149 C, 155 C, 161 C, 167 C, 173 C, 179 C
part F pins: 6 C, 12 C, 18 C, 24 C, 30 C, 36 C, 42 C, 48 C, 54 C, 60 C, 66 C, 72 C, 78 C, 84 C, 90 C, 96 C, 102 C, 108 C, 114 C, 120 C, 126 C, 132 C, 138 C, 144 C, 150 C, 156 C, 162 C, 168 C, 174 C, 180 C
part A text: Конт.; Цепь
part B text: Конт.; Цепь
part C text: Конт.; Цепь
part D text: Конт.; Цепь
part E text: Конт.; Цепь
part F text: Конт.; Цепь

## SEAM-6X40
designator X?  value SEAM-40-03.5-S-06-2-A  (hidden comment: SEAM-6X40)
footprint SEAM-6X40
pins on every part: 241 hidden, 242 hidden
part A pins: 1 C, 7 C, 13 C, 19 C, 25 C, 31 C, 37 C, 43 C, 49 C, 55 C, 61 C, 67 C, 73 C, 79 C, 85 C, 91 C, 97 C, 103 C, 109 C, 115 C, 121 C, 127 C, 133 C, 139 C, 145 C, 151 C, 157 C, 163 C, 169 C, 175 C, 181 C, 187 C, 193 C, 199 C, 205 C, 211 C, 217 C, 223 C, 229 C, 235 C
part B pins: 2 C, 8 C, 14 C, 20 C, 26 C, 32 C, 38 C, 44 C, 50 C, 56 C, 62 C, 68 C, 74 C, 80 C, 86 C, 92 C, 98 C, 104 C, 110 C, 116 C, 122 C, 128 C, 134 C, 140 C, 146 C, 152 C, 158 C, 164 C, 170 C, 176 C, 182 C, 188 C, 194 C, 200 C, 206 C, 212 C, 218 C, 224 C, 230 C, 236 C
part C pins: 3 C, 9 C, 15 C, 21 C, 27 C, 33 C, 39 C, 45 C, 51 C, 57 C, 63 C, 69 C, 75 C, 81 C, 87 C, 93 C, 99 C, 105 C, 111 C, 117 C, 123 C, 129 C, 135 C, 141 C, 147 C, 153 C, 159 C, 165 C, 171 C, 177 C, 183 C, 189 C, 195 C, 201 C, 207 C, 213 C, 219 C, 225 C, 231 C, 237 C
part D pins: 4 C, 10 C, 16 C, 22 C, 28 C, 34 C, 40 C, 46 C, 52 C, 58 C, 64 C, 70 C, 76 C, 82 C, 88 C, 94 C, 100 C, 106 C, 112 C, 118 C, 124 C, 130 C, 136 C, 142 C, 148 C, 154 C, 160 C, 166 C, 172 C, 178 C, 184 C, 190 C, 196 C, 202 C, 208 C, 214 C, 220 C, 226 C, 232 C, 238 C
part E pins: 5 C, 11 C, 17 C, 23 C, 29 C, 35 C, 41 C, 47 C, 53 C, 59 C, 65 C, 71 C, 77 C, 83 C, 89 C, 95 C, 101 C, 107 C, 113 C, 119 C, 125 C, 131 C, 137 C, 143 C, 149 C, 155 C, 161 C, 167 C, 173 C, 179 C, 185 C, 191 C, 197 C, 203 C, 209 C, 215 C, 221 C, 227 C, 233 C, 239 C
part F pins: 6 C, 12 C, 18 C, 24 C, 30 C, 36 C, 42 C, 48 C, 54 C, 60 C, 66 C, 72 C, 78 C, 84 C, 90 C, 96 C, 102 C, 108 C, 114 C, 120 C, 126 C, 132 C, 138 C, 144 C, 150 C, 156 C, 162 C, 168 C, 174 C, 180 C, 186 C, 192 C, 198 C, 204 C, 210 C, 216 C, 222 C, 228 C, 234 C, 240 C
part A text: Конт.; Цепь
part B text: Конт.; Цепь
part C text: Конт.; Цепь
part D text: Конт.; Цепь
part E text: Конт.; Цепь
part F text: Конт.; Цепь

## SFF-8643
designator XS?, comment G40H11331HR
miniSAS; Value: G40H11331HR
footprint SFF-8643 H (G40H11331HR)
footprint SFF-8643 V (G40H2132211HR)
part A pins: A1, A2, A3, A4, A5, A6, A7, A8, A9
part B pins: B1, B2, B3, B4, B5, B6, B7, B8, B9
part C pins: C1, C2, C3, C4, C5, C6, C7, C8, C9
part D pins: D1, D2, D3, D4, D5, D6, D7, D8, D9
part A text: Конт.; Цепь
part B text: Конт.; Цепь
part C text: Конт.; Цепь
part D text: Конт.; Цепь

## SIM6
designator XS?, comment DS1138-07
SIM holder; Value: DS1138-07
footprint KLS1-SIM-046-6P (SIM micro holder)
pins: 1, 2, 3, 5, 6, 7
text: Конт.; Цепь; VCC; RST; CLK; GND; VPP; I/O

## SIM8
designator XS?, comment DS1138-07
SIM holder; Value: DS1138-07
footprint SIM8 (microSD hinged)
footprint KLS1-SIM-046-8P (SIM micro holder)
pins: 1, 2, 3, 4, 5, 6, 7, 8
text: Конт.; Цепь; VCC; RST; CLK; n.c.; GND; VPP; I/O

## SIM16
designator XS?, comment 115H-BA00
SIM dual holder; Value: 115H-BA00
footprint SIM16 (SIM dual mini holder)
part A pins: A1 1, A2 2, A3 3, A4 4, A5 5, A6 6, A7 7, A8 8
part B pins: B1 1, B2 2, B3 3, B4 4, B5 5, B6 6, B7 7, B8 8
part A text: Конт.; Цепь; VCC; RST; CLK; n.c.; GND; VPP; I/O
part B text: Конт.; Цепь; VCC; RST; CLK; n.c.; GND; VPP; I/O

## SMA
designator XW?, comment KLS1-SMA002-B
SMA; Value: KLS1-SMA002-B
footprint SMA-E
footprint SMA-R
footprint SMA-V
pins: 1, 2, 3, 4, 5

## TFLASH
designator XS?
microSD holder; Value: TFLASH
footprint TFLASH (microSD push)
pins: 1, 2, 3, 4, 5, 6, 7, 8, 9, G1 SH, G2 SH, G3 SH, G4 SH
text: Конт.; Цепь; SD2; SD3/CSn; CMD/MOSI; VCC; CLK; GND; SD0/MISO; SD1/INTn; DET; SHIELD

## U.FL
designator XW?, comment KLS1-SMA002-B
RF connector; Value: KLS1-SMA002-B
footprint U.FL
pins: 1, 2, 3

## USB 3.0
designator XS?
Value: USB 3.0
footprint USB 3.0 St
pins: 1, 2, 3, 4, 5, 6, 7, 8, 9, SHL SH, SHR SH
text: Конт.; Цепь; VСС; DM; DP; GND; RX-; RX+; GND_drain; TX-; TX+; SHIELD

## USB-A
designator XS?
Value: USB-A
footprint USB-A
pins: 1, 2, 3, 4, SHL SH, SHR SH
text: Конт.; Цепь; VBUS; DM; DP; GND; SHIELD

## USB-A2
designator XS?  value UB1112-8R2-4F  (hidden comment: USB-A2)
footprint USB-A2_USB-A2(Primary)
pins on every part: A6 hidden, A7 hidden, B6 hidden
part A pins: A1 VBUS, A2 DM, A3 DP, A4 GND, A5 SHIELD
part B pins: B1 VBUS, B2 DM, B3 DP, B4 GND, B5 SHIELD
part A text: Конт.; Цепь
part B text: Конт.; Цепь

## USB-AMpcb
designator XP?, comment USB-AM  (no BOM)
USB-AM pcb edge 2.2mm tick; Value: USB-AM
footprint USB-AM pcb (Edge board (2.2mm tick) connector)
pins: 1, 2, 3, 4
text: Конт.; Цепь; VBUS; DM; DP; GND

## USB-AV
designator XS?, comment 1734366-1
USB-A vertical; Value: 1734366-1
footprint USB-AV
pins: 1, 2, 3, 4, SHL SH, SHR SH
text: Конт.; Цепь; VBUS; DM; DP; GND; SHIELD

## USB-B
designator XS?
USB-B; Value: *
footprint USB-B
pins: 1, 2, 3, 4, SHL SH, SHR SH
text: Конт.; Цепь; VBUS; DM; DP; GND; SHIELD

## USB-BV
designator XS?, comment EDAC 690-004-660-023
USB-BV; Value: EDAC 690-004-660-023
footprint USB-BV
pins: 1, 2, 3, 4, SHL SH, SHR SH
text: Конт.; Цепь; VBUS; DM; DP; GND; SHIELD

## USB-microMpcb
designator XP?, comment USB-BM  (no BOM)
USB-microM pcb edge 0.5mm tick; Value: USB-BM
footprint USB-microM pcb (Edge board (0.5mm tick) connector)
pins: 1, 2, 3, 4, 5
text: Конт.; Цепь; VBUS; DM; DP; ID; GND

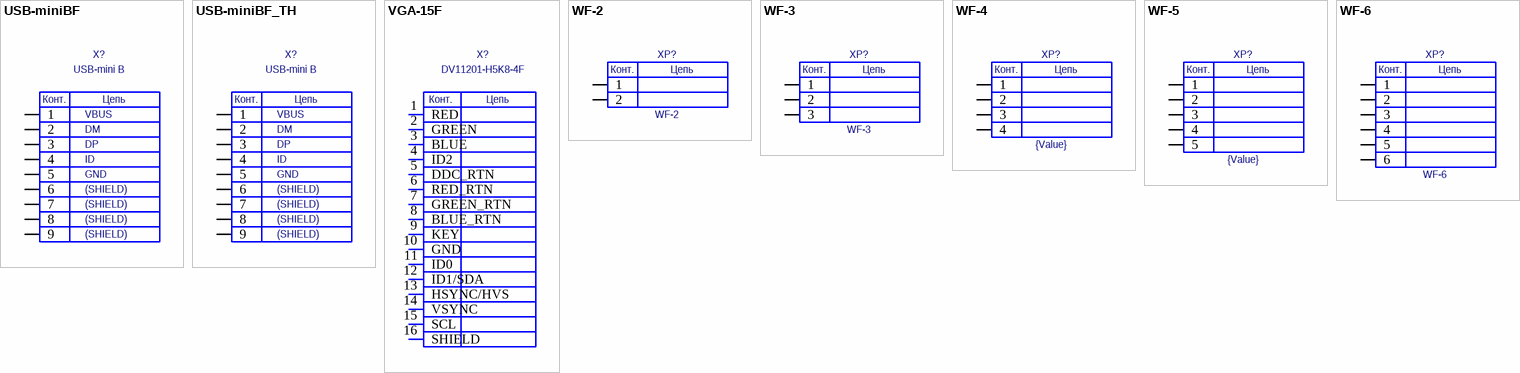
[diagram p15: symbols USB-miniBF to WF-6]

## USB-miniBF
designator X?, comment USB-mini B
USB-B; PartNumber: 1734035-1; Manufacturer: TE Connectivity; Value: USB-mini B
footprint USB-mini-BF
pins: 1, 2, 3, 4, 5, 6, 7, 8, 9
text: Конт.; Цепь; VBUS; DM; DP; ID; GND; (SHIELD)

## USB-miniBF_TH
designator X?, comment USB-mini B
USB-miniB; PartNumber: XM7D-0512; Manufacturer: Omron; Value: USB-mini B
footprint USB-mini-BF-TH
pins: 1, 2, 3, 4, 5, 6, 7, 8, 9
text: Конт.; Цепь; VBUS; DM; DP; ID; GND; (SHIELD)

## VGA-15F
designator X?  value DV11201-H5K8-4F  (hidden comment: VGA-15F)
footprint VGA-15F
pins: 1 RED, 2 GREEN, 3 BLUE, 4 ID2, 5 DDC_RTN, 6 RED_RTN, 7 GREEN_RTN, 8 BLUE_RTN, 9 KEY, 10 GND, 11 ID0, 12 ID1/SDA, 13 HSYNC/HVS, 14 VSYNC, 15 SCL, 16 SHIELD, 17 hidden
text: Конт.; Цепь

## WF-2
designator XP?
Value: WF-2
footprint WF-2M
footprint WF-2R
pins: 1, 2
text: Конт.; Цепь

## WF-3
designator XP?
Value: WF-3
footprint WF-3M
footprint WF-3R
pins: 1, 2, 3
text: Конт.; Цепь

## WF-4
designator XP?, comment {Value}
WF-4; Value: {Value}
footprint WF-4M
footprint WF-4R
footprint WF-4M (KF2510 3+1P)
footprint WF-4M (470531000)
pins: 1, 2, 3, 4
text: Конт.; Цепь

## WF-5
designator XP?, comment {Value}
WF-5; Value: {Value}
footprint WF-5M
footprint WF-5R
pins: 1, 2, 3, 4, 5
text: Конт.; Цепь

## WF-6
designator XP?
Value: WF-6
footprint WF-6M
footprint WF-6R
pins: 1, 2, 3, 4, 5, 6
text: Конт.; Цепь